# EAGLE library part CON_5X3 (library pcaroli)
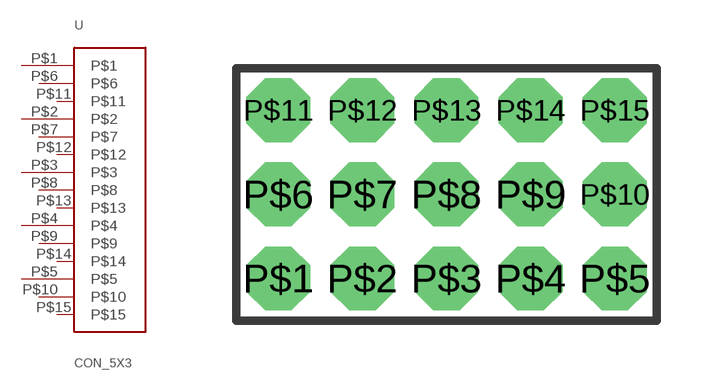
[diagram p8: symbol with the pads of CON5X3_2.54; footprint CON5X3_2.54]

Designator prefix -

## CON_5X3  [CON5X3_2.54]
P$1  P$1
P$2  P$2
P$3  P$3
P$4  P$4
P$5  P$5
P$6  P$6
P$7  P$7
P$8  P$8
P$9  P$9
P$10  P$10
P$11  P$11
P$12  P$12
P$13  P$13
P$14  P$14
P$15  P$15

## Footprint CON5X3_2.54 (pad centres in mm)
drill 1 pad 1.93 octagon: P$1 -5.08,-2.54; P$2 -2.54,-2.54; P$3 0,-2.54; P$4 2.54,-2.54; P$5 5.08,-2.54; P$6 -5.08,0; P$7 -2.54,0; P$8 0,0; P$9 2.54,0; P$10 5.08,0; P$11 -5.08,2.54; P$12 -2.54,2.54; P$13 0,2.54; P$14 2.54,2.54; P$15 5.08,2.54